# Altium footprint library Fedor's_pcb.PcbLib: 174 footprints (part 4 of 14)
Each footprint in its own frame and in the unit in brackets; x right, y up, seen from the top. Pads: shape width x height; smd on the part's side, far side on the other; paste and mask are expansions set on the pad; w line width, h text height; cw(c..) or ccw(c..) is an arc to the next point about the centre after c.
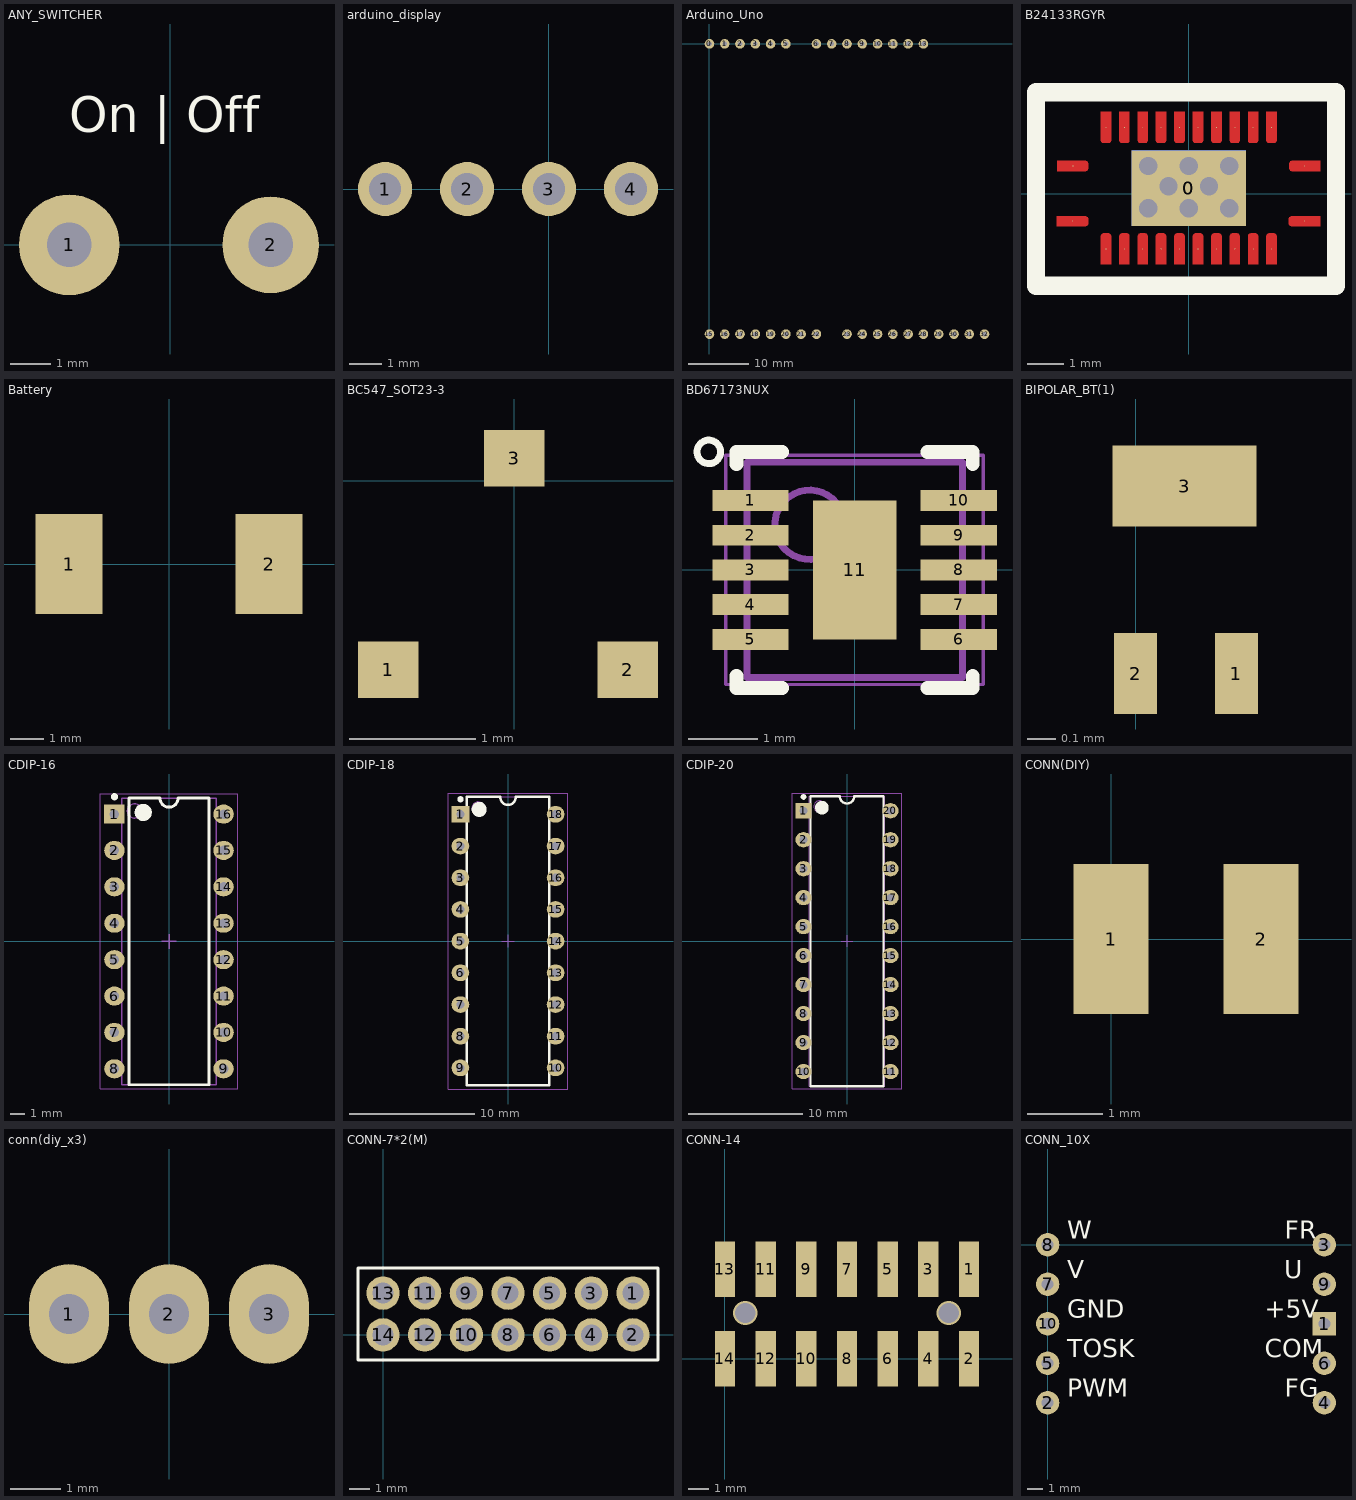
[diagram p3: the footprints below, top view; thin cyan lines are the x and y axes]

## ANY_SWITCHER [mm]
pads (2):
  round 2.5 hole 1.1: 1(-2.5,0)
  round 2.4 hole 1.1: 2(2.5,0)
Top Overlay:
  text "On | Off" at -2.5,2.5 h1.52

## arduino_display [mm]
pads (4):
  round 1.68 hole 1: 1(-5.08,0) 2(-2.54,0) 3(0,0) 4(2.54,0)

## Arduino_Uno [mm]
pads (32):
  round 1.6 hole 0.8: 0(0,0) 1(2.54,0) 2(5.08,0) 3(7.62,0) 4(10.16,0) 5(12.7,0) 6(17.78,0) 7(20.32,0) 8(22.86,0) 9(25.4,0) 10(27.94,0) 11(30.48,0) 12(33.02,0) 13(35.56,0) 15(0,-48.26) 16(2.54,-48.26) 17(5.08,-48.26) 18(7.62,-48.26) 19(10.16,-48.26) 20(12.7,-48.26) 21(15.24,-48.26) 22(17.78,-48.26) 23(22.86,-48.26) 24(25.4,-48.26) 25(27.94,-48.26) 26(30.48,-48.26) 27(33.02,-48.26) 28(35.56,-48.26) 29(38.1,-48.26) 30(40.64,-48.26) 31(43.18,-48.26) 32(45.72,-48.26)

## B24133RGYR [mm] "Стабилизатор"
pads (26):
  rect 3.1x2.05 smd mask+0.07: 0(0,0.15)
  rect 3.1x2.05 smd far side mask+0.07: 0(0,0.15)
  round 0.025 smd mask+0.07: 1(-3.15,0.75) 2(-2.25,1.8) 3(-1.75,1.8) 4(-1.25,1.8) 5(-0.75,1.8) 6(-0.25,1.8) 7(0.25,1.8) 8(0.75,1.8) 9(1.25,1.8) 10(1.75,1.8) 11(2.25,1.8) 12(3.15,0.75) 13(3.141,-0.75) 14(2.25,-1.5) 15(1.75,-1.5) 16(1.25,-1.5) 17(0.75,-1.5) 18(0.25,-1.5) 19(-0.25,-1.5) 20(-0.75,-1.5) 21(-1.25,-1.5) 22(-1.75,-1.5) 23(-2.25,-1.5) 24(-3.159,-0.75)
via -1.1,0.75 diameter 0.7 hole 0.5
via 0,0.75 diameter 0.7 hole 0.5
via 1.1,0.75 diameter 0.7 hole 0.5
via 1.1,-0.4 diameter 0.7 hole 0.5
via 0,-0.4 diameter 0.7 hole 0.5
via -1.1,-0.4 diameter 0.7 hole 0.5
via -0.55,0.2 diameter 0.7 hole 0.5
via 0.55,0.2 diameter 0.7 hole 0.5
Top Layer:
  region: 3.566,-0.61 3.566,-0.89 2.8,-0.89 2.783,-0.89 2.752,-0.877 2.728,-0.854 2.716,-0.823 2.716,-0.806 2.716,-0.694 2.716,-0.677 2.728,-0.646 2.752,-0.623 2.783,-0.61 2.8,-0.61
  region: -3.584,-0.61 -3.584,-0.89 -2.818,-0.89 -2.802,-0.89 -2.771,-0.877 -2.747,-0.854 -2.734,-0.823 -2.734,-0.806 -2.734,-0.694 -2.734,-0.677 -2.747,-0.646 -2.771,-0.623 -2.802,-0.61 -2.818,-0.61
  region: -3.575,0.61 -3.575,0.89 -2.809,0.89 -2.792,0.89 -2.761,0.877 -2.738,0.854 -2.725,0.823 -2.725,0.806 -2.725,0.694 -2.725,0.677 -2.738,0.646 -2.761,0.623 -2.792,0.61 -2.809,0.61
  region: 3.575,0.61 3.575,0.89 2.809,0.89 2.792,0.89 2.761,0.877 2.738,0.854 2.725,0.823 2.725,0.806 2.725,0.694 2.725,0.677 2.738,0.646 2.761,0.623 2.792,0.61 2.809,0.61
  region: 2.11,-1.925 2.39,-1.925 2.39,-1.159 2.39,-1.142 2.377,-1.111 2.354,-1.088 2.323,-1.075 2.306,-1.075 2.194,-1.075 2.177,-1.075 2.146,-1.088 2.123,-1.111 2.11,-1.142 2.11,-1.159
  region: 1.61,-1.925 1.89,-1.925 1.89,-1.159 1.89,-1.142 1.877,-1.111 1.854,-1.088 1.823,-1.075 1.806,-1.075 1.694,-1.075 1.677,-1.075 1.646,-1.088 1.623,-1.111 1.61,-1.142 1.61,-1.159
  region: 1.11,-1.925 1.39,-1.925 1.39,-1.159 1.39,-1.142 1.377,-1.111 1.354,-1.088 1.323,-1.075 1.306,-1.075 1.194,-1.075 1.177,-1.075 1.146,-1.088 1.123,-1.111 1.11,-1.142 1.11,-1.159
  region: -0.89,-1.925 -0.61,-1.925 -0.61,-1.159 -0.61,-1.142 -0.623,-1.111 -0.646,-1.088 -0.677,-1.075 -0.694,-1.075 -0.806,-1.075 -0.823,-1.075 -0.854,-1.088 -0.877,-1.111 -0.89,-1.142 -0.89,-1.159
  region: -1.39,-1.925 -1.11,-1.925 -1.11,-1.159 -1.11,-1.142 -1.123,-1.111 -1.146,-1.088 -1.177,-1.075 -1.194,-1.075 -1.306,-1.075 -1.323,-1.075 -1.354,-1.088 -1.377,-1.111 -1.39,-1.142 -1.39,-1.159
  region: -1.89,-1.925 -1.61,-1.925 -1.61,-1.159 -1.61,-1.142 -1.623,-1.111 -1.646,-1.088 -1.677,-1.075 -1.694,-1.075 -1.806,-1.075 -1.823,-1.075 -1.854,-1.088 -1.877,-1.111 -1.89,-1.142 -1.89,-1.159
  region: 0.61,-1.925 0.89,-1.925 0.89,-1.159 0.89,-1.142 0.877,-1.111 0.854,-1.088 0.823,-1.075 0.806,-1.075 0.694,-1.075 0.677,-1.075 0.646,-1.088 0.623,-1.111 0.61,-1.142 0.61,-1.159
  region: -0.39,-1.925 -0.11,-1.925 -0.11,-1.159 -0.11,-1.142 -0.123,-1.111 -0.146,-1.088 -0.177,-1.075 -0.194,-1.075 -0.306,-1.075 -0.323,-1.075 -0.354,-1.088 -0.377,-1.111 -0.39,-1.142 -0.39,-1.159
  region: 0.11,-1.925 0.39,-1.925 0.39,-1.159 0.39,-1.142 0.377,-1.111 0.354,-1.088 0.323,-1.075 0.306,-1.075 0.194,-1.075 0.177,-1.075 0.146,-1.088 0.123,-1.111 0.11,-1.142 0.11,-1.159
  region: -2.39,-1.925 -2.11,-1.925 -2.11,-1.159 -2.11,-1.142 -2.123,-1.111 -2.146,-1.088 -2.177,-1.075 -2.194,-1.075 -2.306,-1.075 -2.323,-1.075 -2.354,-1.088 -2.377,-1.111 -2.39,-1.142 -2.39,-1.159
  region: 2.11,2.225 2.39,2.225 2.39,1.459 2.39,1.442 2.377,1.411 2.354,1.388 2.323,1.375 2.306,1.375 2.194,1.375 2.177,1.375 2.146,1.388 2.123,1.411 2.11,1.442 2.11,1.459
  region: 1.61,2.225 1.89,2.225 1.89,1.459 1.89,1.442 1.877,1.411 1.854,1.388 1.823,1.375 1.806,1.375 1.694,1.375 1.677,1.375 1.646,1.388 1.623,1.411 1.61,1.442 1.61,1.459
  region: 1.11,2.225 1.39,2.225 1.39,1.459 1.39,1.442 1.377,1.411 1.354,1.388 1.323,1.375 1.306,1.375 1.194,1.375 1.177,1.375 1.146,1.388 1.123,1.411 1.11,1.442 1.11,1.459
  region: -0.89,2.225 -0.61,2.225 -0.61,1.459 -0.61,1.442 -0.623,1.411 -0.646,1.388 -0.677,1.375 -0.694,1.375 -0.806,1.375 -0.823,1.375 -0.854,1.388 -0.877,1.411 -0.89,1.442 -0.89,1.459
  region: -1.39,2.225 -1.11,2.225 -1.11,1.459 -1.11,1.442 -1.123,1.411 -1.146,1.388 -1.177,1.375 -1.194,1.375 -1.306,1.375 -1.323,1.375 -1.354,1.388 -1.377,1.411 -1.39,1.442 -1.39,1.459
  region: -1.89,2.225 -1.61,2.225 -1.61,1.459 -1.61,1.442 -1.623,1.411 -1.646,1.388 -1.677,1.375 -1.694,1.375 -1.806,1.375 -1.823,1.375 -1.854,1.388 -1.877,1.411 -1.89,1.442 -1.89,1.459
  region: 0.61,2.225 0.89,2.225 0.89,1.459 0.89,1.442 0.877,1.411 0.854,1.388 0.823,1.375 0.806,1.375 0.694,1.375 0.677,1.375 0.646,1.388 0.623,1.411 0.61,1.442 0.61,1.459
  region: -0.39,2.225 -0.11,2.225 -0.11,1.459 -0.11,1.442 -0.123,1.411 -0.146,1.388 -0.177,1.375 -0.194,1.375 -0.306,1.375 -0.323,1.375 -0.354,1.388 -0.377,1.411 -0.39,1.442 -0.39,1.459
  region: 0.11,2.225 0.39,2.225 0.39,1.459 0.39,1.442 0.377,1.411 0.354,1.388 0.323,1.375 0.306,1.375 0.194,1.375 0.177,1.375 0.146,1.388 0.123,1.411 0.11,1.442 0.11,1.459
  region: -2.39,2.225 -2.11,2.225 -2.11,1.459 -2.11,1.442 -2.123,1.411 -2.146,1.388 -2.177,1.375 -2.194,1.375 -2.306,1.375 -2.323,1.375 -2.354,1.388 -2.377,1.411 -2.39,1.442 -2.39,1.459
Top Overlay:
  lines w0.5: -4.15,0.95 -4.15,-2.5 4,-2.5 4,2.75 -4.15,2.75 -4.15,1

## Battery [mm]
pads (2):
  rect 2x3 smd: 1(-3,0) 2(3,0)

## BC547_SOT23-3 [mm]
pads (3):
  rect 0.48x0.45 smd mask+0.05: 1(-1,-1.5) 2(0.9,-1.5) 3(0,0.178)
3D body "BC547.stp": height 0.9, standoff 0, extent -1.4,-1.817 1.4,0.559

## BD67173NUX [mm] "SON, 10-Leads, Body 3,00x3,00mm, Pitch 0,50mm, Thermal Pad 2,00x1,20mm, IPC High Density"
height 0.6
pads (11):
  rect 1.1x0.3 smd mask+0.07: 1(-1.5,1) 2(-1.5,0.5) 3(-1.5,0) 4(-1.5,-0.5) 5(-1.5,-1) 6(1.5,-1) 7(1.5,-0.5) 8(1.5,0) 9(1.5,0.5) 10(1.5,1)
  rect 1.2x2 smd: 11(0,0)
Top Overlay:
  circle w0.1: c-2.1,1.7 r0.17
  lines w0.2: -1.7,-1.525 -1.7,-1.7 -1.045,-1.7 ; -1.7,1.525 -1.7,1.7 -1.045,1.7 ; 1.045,-1.7 1.7,-1.7 1.7,-1.525 ; 1.045,1.7 1.7,1.7 1.7,1.525
Mechanical 13:
  circle w0.1: c-0.65,0.65 r0.5
  lines w0.1: -1.55,-1.55 1.55,-1.55 1.55,1.55 -1.55,1.55 -1.55,-1.55
Mechanical 15:
  lines w0.05: -1.855,-1.65 1.855,-1.65 1.855,1.65 -1.855,1.65 -1.855,-1.65
  lines w0.1: -0.5,0 0.5,0 ; 0,-0.5 0,0.5
3D body "ABC.step": height 0.6, standoff 0, extent -1.57,-1.55 1.57,1.55

## BIPOLAR_BT(1) [mm] "PBSS2515M, Транзистор биполярный SMD (NPN 15В 0.5А DFN-1006-3)"
pads (3):
  rect 0.15x0.28 smd paste-2539.97 mask+0.035: 1(0.35,1.05) 2(0,1.05)
  rect 0.5x0.28 smd paste-2539.97 mask+0.035: 3(0.17,1.7)

## CDIP-16 [mm] "16-pin ceramic DIP (DIP-16P-M02)"
height 5.08
pads (16):
  rect 1.42x1.32 hole 0.66: 1(-3.81,8.89)
  oval 1.42x1.32 hole 0.66: 2(-3.81,6.35) 3(-3.81,3.81) 4(-3.81,1.27) 5(-3.81,-1.27) 6(-3.81,-3.81) 7(-3.81,-6.35) 8(-3.81,-8.89) 9(3.81,-8.89) 10(3.81,-6.35) 11(3.81,-3.81) 12(3.81,-1.27) 13(3.81,1.27) 14(3.81,3.81) 15(3.81,6.35) 16(3.81,8.89)
Top Overlay:
  circle w0.25: c-3.81,10.1 r0.125
  circle w0.6: c-1.8,9.005 r0.3
  lines w0.2: -2.8,-10.005 -2.8,10.005 -0.635,10.005 ccw(c0,10.005) 0.635,10.005 2.8,10.005 2.8,-10.005 -2.8,-10.005
Mechanical 13:
  circle w0.1: c-2.41,9.105 r0.5
  lines w0.1: -3.31,-10.005 -3.31,10.005 3.31,10.005 3.31,-10.005 -3.31,-10.005
Mechanical 15:
  lines w0.05: -4.8,-10.3 -4.8,10.3 4.8,10.3 4.8,-10.3 -4.8,-10.3
  lines w0.1: -0.5,0 0.5,0 ; 0,-0.5 0,0.5
3D body: height 2.7, standoff 0, extent -3.909,8.51 -3.711,9.27
3D body: height 2.9, standoff 2.7, extent -3.909,8.51 -3.31,9.27
3D body: height 0, standoff -1.6, extent -3.909,8.626 -3.711,9.154
3D body: height 2.7, standoff 0, extent -3.909,5.97 -3.711,6.73
3D body: height 2.9, standoff 2.7, extent -3.909,5.97 -3.31,6.73
3D body: height 0, standoff -1.6, extent -3.909,6.086 -3.711,6.614
3D body: height 2.7, standoff 0, extent -3.909,3.43 -3.711,4.19
3D body: height 2.9, standoff 2.7, extent -3.909,3.43 -3.31,4.19
3D body: height 0, standoff -1.6, extent -3.909,3.546 -3.711,4.074
3D body: height 2.7, standoff 0, extent -3.909,0.89 -3.711,1.65
3D body: height 2.9, standoff 2.7, extent -3.909,0.89 -3.31,1.65
3D body: height 0, standoff -1.6, extent -3.909,1.006 -3.711,1.534
3D body: height 2.7, standoff 0, extent -3.909,-1.65 -3.711,-0.89
3D body: height 2.9, standoff 2.7, extent -3.909,-1.65 -3.31,-0.89
3D body: height 0, standoff -1.6, extent -3.909,-1.534 -3.711,-1.006
3D body: height 2.7, standoff 0, extent -3.909,-4.19 -3.711,-3.43
3D body: height 2.9, standoff 2.7, extent -3.909,-4.19 -3.31,-3.43
3D body: height 0, standoff -1.6, extent -3.909,-4.074 -3.711,-3.546
3D body: height 2.7, standoff 0, extent -3.909,-6.73 -3.711,-5.97
3D body: height 2.9, standoff 2.7, extent -3.909,-6.73 -3.31,-5.97
3D body: height 0, standoff -1.6, extent -3.909,-6.614 -3.711,-6.086
3D body: height 2.7, standoff 0, extent -3.909,-9.27 -3.711,-8.51
3D body: height 2.9, standoff 2.7, extent -3.909,-9.27 -3.31,-8.51
3D body: height 0, standoff -1.6, extent -3.909,-9.154 -3.711,-8.626
3D body: height 2.7, standoff 0, extent 3.711,-9.27 3.909,-8.51
3D body: height 2.9, standoff 2.7, extent 3.31,-9.27 3.909,-8.51
3D body: height 0, standoff -1.6, extent 3.711,-9.154 3.909,-8.626
3D body: height 2.7, standoff 0, extent 3.711,-6.73 3.909,-5.97
3D body: height 2.9, standoff 2.7, extent 3.31,-6.73 3.909,-5.97
3D body: height 0, standoff -1.6, extent 3.711,-6.614 3.909,-6.086
3D body: height 2.7, standoff 0, extent 3.711,-4.19 3.909,-3.43
3D body: height 2.9, standoff 2.7, extent 3.31,-4.19 3.909,-3.43
3D body: height 0, standoff -1.6, extent 3.711,-4.074 3.909,-3.546
3D body: height 2.7, standoff 0, extent 3.711,-1.65 3.909,-0.89
3D body: height 2.9, standoff 2.7, extent 3.31,-1.65 3.909,-0.89
3D body: height 0, standoff -1.6, extent 3.711,-1.534 3.909,-1.006
3D body: height 2.7, standoff 0, extent 3.711,0.89 3.909,1.65
3D body: height 2.9, standoff 2.7, extent 3.31,0.89 3.909,1.65
3D body: height 0, standoff -1.6, extent 3.711,1.006 3.909,1.534
3D body: height 2.7, standoff 0, extent 3.711,3.43 3.909,4.19
3D body: height 2.9, standoff 2.7, extent 3.31,3.43 3.909,4.19
3D body: height 0, standoff -1.6, extent 3.711,3.546 3.909,4.074
3D body: height 2.7, standoff 0, extent 3.711,5.97 3.909,6.73
3D body: height 2.9, standoff 2.7, extent 3.31,5.97 3.909,6.73
3D body: height 0, standoff -1.6, extent 3.711,6.086 3.909,6.614
3D body: height 2.7, standoff 0, extent 3.711,8.51 3.909,9.27
3D body: height 2.9, standoff 2.7, extent 3.31,8.51 3.909,9.27
3D body: height 0, standoff -1.6, extent 3.711,8.626 3.909,9.154
3D body: height 5.08, standoff 0.51, extent -3.31,-10.005 3.31,10.005

## CDIP-18 [mm] "18-pin ceramic DIP (DIP-18P-M02)"
height 5.08
pads (18):
  rect 1.42x1.32 hole 0.66: 1(-3.81,10.16)
  oval 1.42x1.32 hole 0.66: 2(-3.81,7.62) 3(-3.81,5.08) 4(-3.81,2.54) 5(-3.81,0) 6(-3.81,-2.54) 7(-3.81,-5.08) 8(-3.81,-7.62) 9(-3.81,-10.16) 10(3.81,-10.16) 11(3.81,-7.62) 12(3.81,-5.08) 13(3.81,-2.54) 14(3.81,0) 15(3.81,2.54) 16(3.81,5.08) 17(3.81,7.62) 18(3.81,10.16)
Top Overlay:
  circle w0.25: c-3.81,11.37 r0.125
  circle w0.6: c-2.31,10.555 r0.3
  lines w0.2: -3.31,-11.555 -3.31,11.555 -0.635,11.555 ccw(c0,11.555) 0.635,11.555 3.31,11.555 3.31,-11.555 -3.31,-11.555
Mechanical 13:
  circle w0.1: c-2.41,10.655 r0.5
  lines w0.1: -3.31,-11.555 -3.31,11.555 3.31,11.555 3.31,-11.555 -3.31,-11.555
Mechanical 15:
  lines w0.05: -4.8,-11.85 -4.8,11.85 4.8,11.85 4.8,-11.85 -4.8,-11.85
  lines w0.1: -0.5,0 0.5,0 ; 0,-0.5 0,0.5
3D body: height 2.7, standoff 0, extent -3.909,9.78 -3.711,10.54
3D body: height 2.9, standoff 2.7, extent -3.909,9.78 -3.31,10.54
3D body: height 0, standoff -1.6, extent -3.909,9.896 -3.711,10.424
3D body: height 2.7, standoff 0, extent -3.909,7.24 -3.711,8
3D body: height 2.9, standoff 2.7, extent -3.909,7.24 -3.31,8
3D body: height 0, standoff -1.6, extent -3.909,7.356 -3.711,7.884
3D body: height 2.7, standoff 0, extent -3.909,4.7 -3.711,5.46
3D body: height 2.9, standoff 2.7, extent -3.909,4.7 -3.31,5.46
3D body: height 0, standoff -1.6, extent -3.909,4.816 -3.711,5.344
3D body: height 2.7, standoff 0, extent -3.909,2.16 -3.711,2.92
3D body: height 2.9, standoff 2.7, extent -3.909,2.16 -3.31,2.92
3D body: height 0, standoff -1.6, extent -3.909,2.276 -3.711,2.804
3D body: height 2.7, standoff 0, extent -3.909,-0.38 -3.711,0.38
3D body: height 2.9, standoff 2.7, extent -3.909,-0.38 -3.31,0.38
3D body: height 0, standoff -1.6, extent -3.909,-0.264 -3.711,0.264
3D body: height 2.7, standoff 0, extent -3.909,-2.92 -3.711,-2.16
3D body: height 2.9, standoff 2.7, extent -3.909,-2.92 -3.31,-2.16
3D body: height 0, standoff -1.6, extent -3.909,-2.804 -3.711,-2.276
3D body: height 2.7, standoff 0, extent -3.909,-5.46 -3.711,-4.7
3D body: height 2.9, standoff 2.7, extent -3.909,-5.46 -3.31,-4.7
3D body: height 0, standoff -1.6, extent -3.909,-5.344 -3.711,-4.816
3D body: height 2.7, standoff 0, extent -3.909,-8 -3.711,-7.24
3D body: height 2.9, standoff 2.7, extent -3.909,-8 -3.31,-7.24
3D body: height 0, standoff -1.6, extent -3.909,-7.884 -3.711,-7.356
3D body: height 2.7, standoff 0, extent -3.909,-10.54 -3.711,-9.78
3D body: height 2.9, standoff 2.7, extent -3.909,-10.54 -3.31,-9.78
3D body: height 0, standoff -1.6, extent -3.909,-10.424 -3.711,-9.896
3D body: height 2.7, standoff 0, extent 3.711,-10.54 3.909,-9.78
3D body: height 2.9, standoff 2.7, extent 3.31,-10.54 3.909,-9.78
3D body: height 0, standoff -1.6, extent 3.711,-10.424 3.909,-9.896
3D body: height 2.7, standoff 0, extent 3.711,-8 3.909,-7.24
3D body: height 2.9, standoff 2.7, extent 3.31,-8 3.909,-7.24
3D body: height 0, standoff -1.6, extent 3.711,-7.884 3.909,-7.356
3D body: height 2.7, standoff 0, extent 3.711,-5.46 3.909,-4.7
3D body: height 2.9, standoff 2.7, extent 3.31,-5.46 3.909,-4.7
3D body: height 0, standoff -1.6, extent 3.711,-5.344 3.909,-4.816
3D body: height 2.7, standoff 0, extent 3.711,-2.92 3.909,-2.16
3D body: height 2.9, standoff 2.7, extent 3.31,-2.92 3.909,-2.16
3D body: height 0, standoff -1.6, extent 3.711,-2.804 3.909,-2.276
3D body: height 2.7, standoff 0, extent 3.711,-0.38 3.909,0.38
3D body: height 2.9, standoff 2.7, extent 3.31,-0.38 3.909,0.38
3D body: height 0, standoff -1.6, extent 3.711,-0.264 3.909,0.264
3D body: height 2.7, standoff 0, extent 3.711,2.16 3.909,2.92
3D body: height 2.9, standoff 2.7, extent 3.31,2.16 3.909,2.92
3D body: height 0, standoff -1.6, extent 3.711,2.276 3.909,2.804
3D body: height 2.7, standoff 0, extent 3.711,4.7 3.909,5.46
3D body: height 2.9, standoff 2.7, extent 3.31,4.7 3.909,5.46
3D body: height 0, standoff -1.6, extent 3.711,4.816 3.909,5.344
3D body: height 2.7, standoff 0, extent 3.711,7.24 3.909,8
3D body: height 2.9, standoff 2.7, extent 3.31,7.24 3.909,8
3D body: height 0, standoff -1.6, extent 3.711,7.356 3.909,7.884
3D body: height 2.7, standoff 0, extent 3.711,9.78 3.909,10.54
3D body: height 2.9, standoff 2.7, extent 3.31,9.78 3.909,10.54
3D body: height 0, standoff -1.6, extent 3.711,9.896 3.909,10.424
3D body: height 5.08, standoff 0.51, extent -3.31,-11.555 3.31,11.555

## CDIP-20 [mm] "20-pin ceramic DIP (DIP-20P-M02)"
height 5.08
pads (20):
  rect 1.42x1.32 hole 0.66: 1(-3.81,11.43)
  oval 1.42x1.32 hole 0.66: 2(-3.81,8.89) 3(-3.81,6.35) 4(-3.81,3.81) 5(-3.81,1.27) 6(-3.81,-1.27) 7(-3.81,-3.81) 8(-3.81,-6.35) 9(-3.81,-8.89) 10(-3.81,-11.43) 11(3.81,-11.43) 12(3.81,-8.89) 13(3.81,-6.35) 14(3.81,-3.81) 15(3.81,-1.27) 16(3.81,1.27) 17(3.81,3.81) 18(3.81,6.35) 19(3.81,8.89) 20(3.81,11.43)
Top Overlay:
  circle w0.25: c-3.81,12.64 r0.125
  circle w0.6: c-2.2,11.7 r0.3
  lines w0.2: -3.2,-12.7 -3.2,12.7 -0.635,12.7 ccw(c0,12.7) 0.635,12.7 3.2,12.7 3.2,-12.7 -3.2,-12.7
Mechanical 13:
  circle w0.1: c-2.41,11.8 r0.5
  lines w0.1: -3.31,-12.7 -3.31,12.7 3.31,12.7 3.31,-12.7 -3.31,-12.7
Mechanical 15:
  lines w0.05: -4.8,-12.95 -4.8,12.95 4.8,12.95 4.8,-12.95 -4.8,-12.95
  lines w0.1: -0.5,0 0.5,0 ; 0,-0.5 0,0.5
3D body: height 2.7, standoff 0, extent -3.909,11.05 -3.711,11.81
3D body: height 2.9, standoff 2.7, extent -3.909,11.05 -3.31,11.81
3D body: height 0, standoff -1.6, extent -3.909,11.166 -3.711,11.694
3D body: height 2.7, standoff 0, extent -3.909,8.51 -3.711,9.27
3D body: height 2.9, standoff 2.7, extent -3.909,8.51 -3.31,9.27
3D body: height 0, standoff -1.6, extent -3.909,8.626 -3.711,9.154
3D body: height 2.7, standoff 0, extent -3.909,5.97 -3.711,6.73
3D body: height 2.9, standoff 2.7, extent -3.909,5.97 -3.31,6.73
3D body: height 0, standoff -1.6, extent -3.909,6.086 -3.711,6.614
3D body: height 2.7, standoff 0, extent -3.909,3.43 -3.711,4.19
3D body: height 2.9, standoff 2.7, extent -3.909,3.43 -3.31,4.19
3D body: height 0, standoff -1.6, extent -3.909,3.546 -3.711,4.074
3D body: height 2.7, standoff 0, extent -3.909,0.89 -3.711,1.65
3D body: height 2.9, standoff 2.7, extent -3.909,0.89 -3.31,1.65
3D body: height 0, standoff -1.6, extent -3.909,1.006 -3.711,1.534
3D body: height 2.7, standoff 0, extent -3.909,-1.65 -3.711,-0.89
3D body: height 2.9, standoff 2.7, extent -3.909,-1.65 -3.31,-0.89
3D body: height 0, standoff -1.6, extent -3.909,-1.534 -3.711,-1.006
3D body: height 2.7, standoff 0, extent -3.909,-4.19 -3.711,-3.43
3D body: height 2.9, standoff 2.7, extent -3.909,-4.19 -3.31,-3.43
3D body: height 0, standoff -1.6, extent -3.909,-4.074 -3.711,-3.546
3D body: height 2.7, standoff 0, extent -3.909,-6.73 -3.711,-5.97
3D body: height 2.9, standoff 2.7, extent -3.909,-6.73 -3.31,-5.97
3D body: height 0, standoff -1.6, extent -3.909,-6.614 -3.711,-6.086
3D body: height 2.7, standoff 0, extent -3.909,-9.27 -3.711,-8.51
3D body: height 2.9, standoff 2.7, extent -3.909,-9.27 -3.31,-8.51
3D body: height 0, standoff -1.6, extent -3.909,-9.154 -3.711,-8.626
3D body: height 2.7, standoff 0, extent -3.909,-11.81 -3.711,-11.05
3D body: height 2.9, standoff 2.7, extent -3.909,-11.81 -3.31,-11.05
3D body: height 0, standoff -1.6, extent -3.909,-11.694 -3.711,-11.166
3D body: height 2.7, standoff 0, extent 3.711,-11.81 3.909,-11.05
3D body: height 2.9, standoff 2.7, extent 3.31,-11.81 3.909,-11.05
3D body: height 0, standoff -1.6, extent 3.711,-11.694 3.909,-11.166
3D body: height 2.7, standoff 0, extent 3.711,-9.27 3.909,-8.51
3D body: height 2.9, standoff 2.7, extent 3.31,-9.27 3.909,-8.51
3D body: height 0, standoff -1.6, extent 3.711,-9.154 3.909,-8.626
3D body: height 2.7, standoff 0, extent 3.711,-6.73 3.909,-5.97
3D body: height 2.9, standoff 2.7, extent 3.31,-6.73 3.909,-5.97
3D body: height 0, standoff -1.6, extent 3.711,-6.614 3.909,-6.086
3D body: height 2.7, standoff 0, extent 3.711,-4.19 3.909,-3.43
3D body: height 2.9, standoff 2.7, extent 3.31,-4.19 3.909,-3.43
3D body: height 0, standoff -1.6, extent 3.711,-4.074 3.909,-3.546
3D body: height 2.7, standoff 0, extent 3.711,-1.65 3.909,-0.89
3D body: height 2.9, standoff 2.7, extent 3.31,-1.65 3.909,-0.89
3D body: height 0, standoff -1.6, extent 3.711,-1.534 3.909,-1.006
3D body: height 2.7, standoff 0, extent 3.711,0.89 3.909,1.65
3D body: height 2.9, standoff 2.7, extent 3.31,0.89 3.909,1.65
3D body: height 0, standoff -1.6, extent 3.711,1.006 3.909,1.534
3D body: height 2.7, standoff 0, extent 3.711,3.43 3.909,4.19
3D body: height 2.9, standoff 2.7, extent 3.31,3.43 3.909,4.19
3D body: height 0, standoff -1.6, extent 3.711,3.546 3.909,4.074
3D body: height 2.7, standoff 0, extent 3.711,5.97 3.909,6.73
3D body: height 2.9, standoff 2.7, extent 3.31,5.97 3.909,6.73
3D body: height 0, standoff -1.6, extent 3.711,6.086 3.909,6.614
3D body: height 2.7, standoff 0, extent 3.711,8.51 3.909,9.27
3D body: height 2.9, standoff 2.7, extent 3.31,8.51 3.909,9.27
3D body: height 0, standoff -1.6, extent 3.711,8.626 3.909,9.154
3D body: height 2.7, standoff 0, extent 3.711,11.05 3.909,11.81
3D body: height 2.9, standoff 2.7, extent 3.31,11.05 3.909,11.81
3D body: height 0, standoff -1.6, extent 3.711,11.166 3.909,11.694
3D body: height 5.08, standoff 0.51, extent -3.31,-12.7 3.31,12.7

## CONN(DIY) [mm]
pads (2):
  rect 1x2 smd paste-2539.97 mask+0.07: 1(0,0) 2(2,0)

## conn(diy_x3) [mm]
pads (3):
  oval 1.6x2 hole 0.8 paste-2539.97 mask+0.07: 1(-2,0) 2(0,0) 3(2,0)

## CONN-7*2(M) [mm]
pads (14):
  round 1.6 hole 1: 1(12,2) 2(12,0) 3(10,2) 4(10,0) 5(8,2) 6(8,0) 7(6,2) 8(6,0) 9(4,2) 10(4,0) 11(2,2) 12(2,0) 13(0,2) 14(0,0)
Top Overlay:
  lines w0.15: -1.2,-1.2 -1.2,3.2 13.2,3.2 13.2,-1.2 -1.2,-1.2

## CONN-14 [mm] "878321420"
pads (14):
  rect 1x2.75 smd mask+0.07: 1(12,4.4) 2(12,0) 3(10,4.4) 4(10,0) 5(8,4.4) 6(8,0) 7(6,4.4) 8(6,0) 9(4,4.4) 10(4,0) 11(2,4.4) 12(2,0) 13(0,4.4) 14(0,0)
via 11,2.25 diameter 1.2 hole 1
via 1,2.25 diameter 1.2 hole 1

## CONN_10X [mm]
pads (10):
  rect 1.5x1.5 hole 0.762: 1(17.78,-5.08)
  round 1.5 hole 0.762: 2(0,-10.16) 3(17.78,0) 4(17.78,-10.16) 5(0,-7.62) 6(17.78,-7.62) 7(0,-2.54) 8(0,0) 9(17.78,-2.54) 10(0,-5.08)
Top Overlay:
  text "+5V" at 13.965,-5.08 h2
  text "PWM" at 1.264,-10.16 h2
  text "FR" at 15.233,0 h2
  text "FG" at 15.233,-10.16 h2
  text "TOSK" at 1.263,-7.62 h2
  text "GND" at 1.244,-5.08 h2
  text "U" at 15.213,-2.54 h2
  text "W" at 1.271,0 h2
  text "V" at 1.266,-2.54 h2
  text "COM" at 13.944,-7.62 h2